# EAGLE library part IR_D_V2 (library LVK)
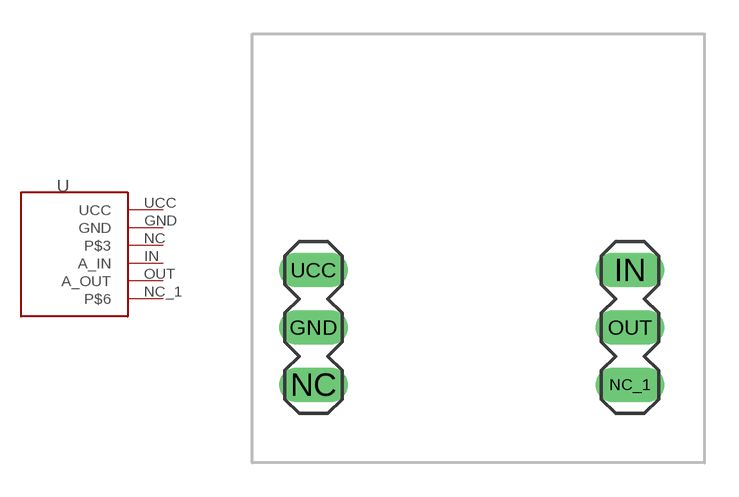
[diagram p0: symbol with the pads of IR_D_V2; footprint IR_D_V2]

Designator prefix -

## IR_D_V2  [IR_D_V2]
GND  GND
IN  A_IN
NC  P$3
NC_1  P$6
OUT  A_OUT
UCC  UCC

## Footprint IR_D_V2 (pad centres in mm)
drill 1.016 long: GND -7.3,-4.9; IN 6.7,-2.36; NC -7.3,-7.44; NC_1 6.7,-7.44; OUT 6.7,-4.9; UCC -7.3,-2.36